# Altium schematic symbol library SN75176B.SchLib: 1 symbol
Pins are listed as number, name and electrical type; pins without a type are passive.

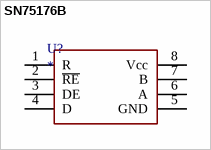
[diagram p0: symbol SN75176B]

## SN75176B
designator U?
footprint ADI-R-8_N (SOIC, 8-Leads, Body 4.9x3.9mm, Pitch 1.27mm, IPC Medium Density)
footprint ADI-R-8_M (SOIC, 8-Leads, Body 4.9x3.9mm, Pitch 1.27mm, IPC Low Density)
footprint ADI-R-8_L (SOIC, 8-Leads, Body 4.9x3.9mm, Pitch 1.27mm, IPC High Density)
pins: 1 R "Termal Pad", 2 ~{RE} "Termal Pad", 3 DE "Termal Pad", 4 D "Termal Pad", 5 GND "Termal Pad", 6 A "Termal Pad", 7 B "Termal Pad", 8 Vcc "Termal Pad"